# Altium integrated library ResetKey_C5382.IntLib: 1 symbol
Pins are listed as number, name and electrical type; pins without a type are passive.

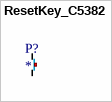
[diagram p0: symbol ResetKey_C5382]

## ResetKey_C5382
designator P?
footprint ResetKeyC5382
pins: 0, 1